# EAGLE library part LT1999IMS8-50PBF (library LT1999IMS8-50)
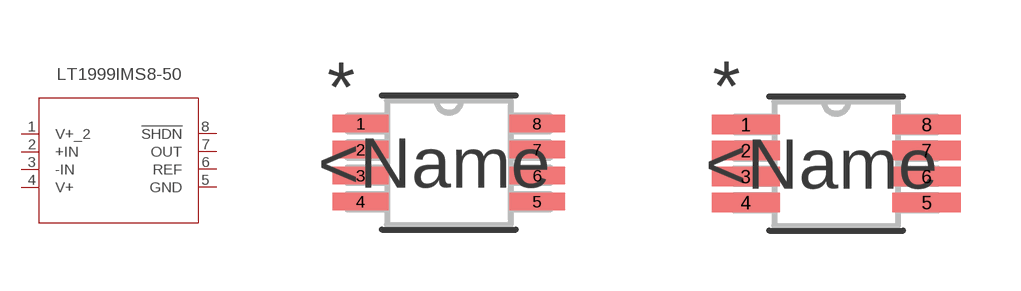
[diagram p0: symbol with the pads of MSOP-8_MS; footprints MSOP-8_MS, MSOP-8_MS-M]

Designator prefix U

## LT1999IMS8-50PBF (MANUFACTURER_PART_NUMBER: lt1999ims850#pbf; VENDOR: Linear Technology)  [MSOP-8_MS]
1  V+_2  pwr
2  +IN  in
3  -IN  in
4  V+  pwr
5  GND  pwr
6  REF  in
7  OUT  out
8  !SHDN  pas

## LT1999IMS8-50PBFMSOP-8_MS-M (MANUFACTURER_PART_NUMBER: lt1999ims850#pbf; VENDOR: Linear Technology)  [MSOP-8_MS-M]
Pads as for MSOP-8_MS

## LT1999IMS8-50PBFMSOP-8_MS-L (MANUFACTURER_PART_NUMBER: lt1999ims850#pbf; VENDOR: Linear Technology)  [MSOP-8_MS-L]
Pads as for MSOP-8_MS

## Footprint MSOP-8_MS (pad centres in mm)
smd 1.397 x 0.432: 1 -2.21,0.975; 2 -2.21,0.325; 3 -2.21,-0.325; 4 -2.21,-0.975; 5 2.21,-0.975; 6 2.21,-0.325; 7 2.21,0.325; 8 2.21,0.975

## Footprint MSOP-8_MS-M (pad centres in mm)
smd 1.702 x 0.483: 1 -2.261,0.975; 2 -2.261,0.325; 3 -2.261,-0.325; 4 -2.261,-0.975; 5 2.261,-0.975; 6 2.261,-0.325; 7 2.261,0.325; 8 2.261,0.975

## Footprint MSOP-8_MS-L (pad centres in mm)
smd 1.092 x 0.381: 1 -2.159,0.975; 2 -2.159,0.325; 3 -2.159,-0.325; 4 -2.159,-0.975; 5 2.159,-0.975; 6 2.159,-0.325; 7 2.159,0.325; 8 2.159,0.975